# EAGLE library part TINY2313 (library Jim)
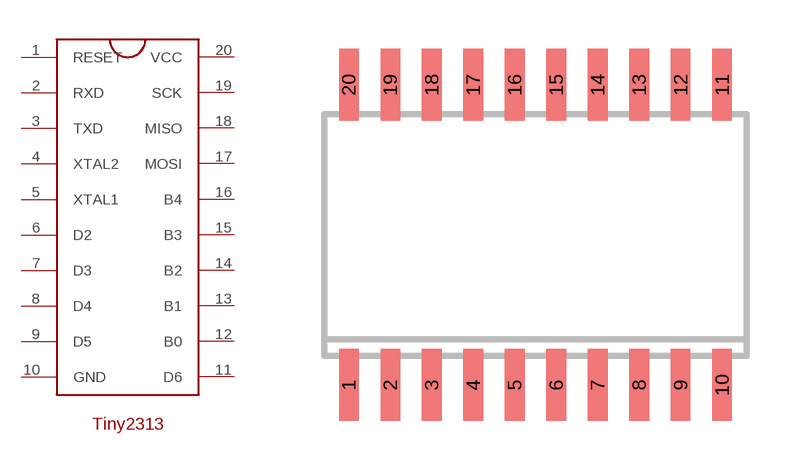
[diagram p2: symbol with the pads of SOIC-20; footprint SOIC-20]

Designator prefix -

## TINY2313  [SOIC-20]
1  RESET
2  RXD
3  TXD
4  XTAL2
5  XTAL1
6  D2
7  D3
8  D4
9  D5
10  GND
11  D6
12  B0
13  B1
14  B2
15  B3
16  B4
17  MOSI
18  MISO
19  SCK
20  VCC

## Footprint SOIC-20 (pad centres in mm)
smd 0.6 x 2.2: 1 -5.715,-4.6; 2 -4.445,-4.6; 3 -3.175,-4.6; 4 -1.905,-4.6; 5 -0.635,-4.6; 6 0.635,-4.6; 7 1.905,-4.6; 8 3.175,-4.6; 9 4.445,-4.6; 10 5.715,-4.6; 11 5.715,4.6; 12 4.445,4.6; 13 3.175,4.6; 14 1.905,4.6; 15 0.635,4.6; 16 -0.635,4.6; 17 -1.905,4.6; 18 -3.175,4.6; 19 -4.445,4.6; 20 -5.715,4.6